# Altium footprint library AOD424.PcbLib: 1 footprints
Each footprint in its own frame and in the unit in brackets; x right, y up, seen from the top. Pads: shape width x height; smd on the part's side, far side on the other; paste and mask are expansions set on the pad; w line width, h text height; cw(c..) or ccw(c..) is an arc to the next point about the centre after c.
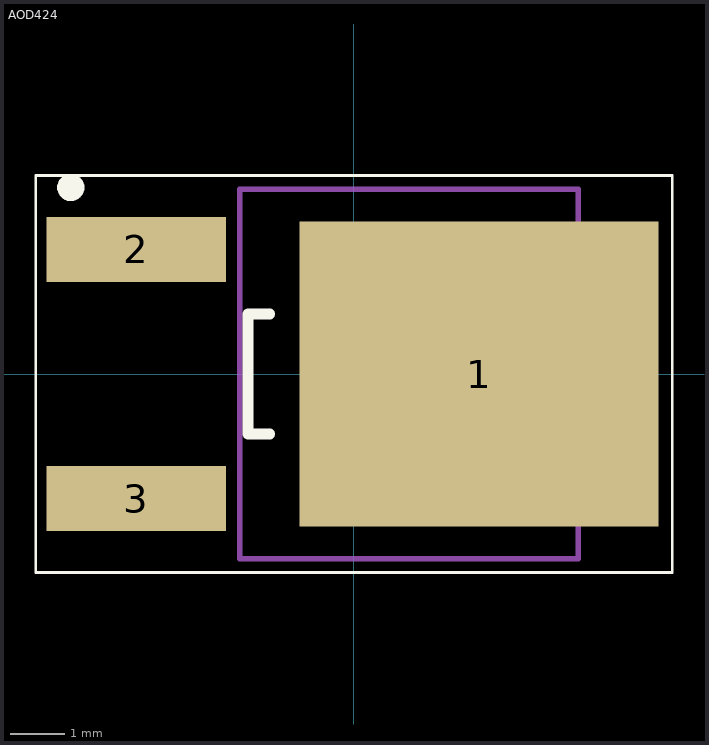
[diagram p0: the footprint, top view; thin cyan lines are the x and y axes]

## AOD424 [mm] "NMOS-20V-35A"
height 2.4
pads (3):
  rect 6.6x5.6 smd: 1(2.3,0)
  rect 3.3x1.2 smd: 2(-4,2.29) 3(-4,-2.29)
Top Overlay:
  circle w0.25: c-5.207,3.429 r0.125
  lines w0.05: -5.85,-3.65 5.85,-3.65 5.85,3.65 -5.85,3.65 -5.85,-3.65
  lines w0.2: -1.55,-1.1 -1.95,-1.1 -1.95,1.1 -1.55,1.1
Mechanical 13:
  lines w0.1: -2.1,-3.4 4.12,-3.4 4.12,3.4 -2.1,3.4 -2.1,-3.4
Mechanical 15:
  lines w0.1: -0.5,0 0.5,0 ; 0,-0.5 0,0.5
3D body "AOD424.step": height 2.4, standoff 0, extent -4.185,-3.4 5.764,3.4